# EAGLE library part SSD1289 (library Barnard)
240x320 RGB TFT controller with SPI touch controller. Commonly found on Asian TFT modules such as HY32D.
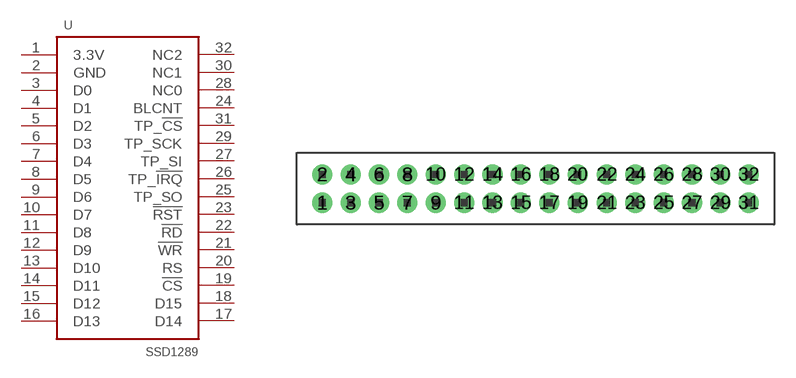
[diagram p0: symbol with the pads of 2X16; footprint 2X16]

Designator prefix -

## SSD1289  [2X16]
1  3.3V  pwr
2  GND  pwr
3  D0
4  D1
5  D2
6  D3
7  D4
8  D5
9  D6
10  D7
11  D8
12  D9
13  D10
14  D11
15  D12
16  D13
17  D14
18  D15
19  !CS  in
20  RS  in
21  !WR  in
22  !RD  in
23  !RST  in
24  BLCNT  in
25  TP_SO  out
26  TP_!IRQ  out
27  TP_SI  in
28  NC0  nc
29  TP_SCK  in
30  NC1  nc
31  TP_!CS  in
32  NC2  nc

## Footprint 2X16 (pad centres in mm)
drill 0.8 pad 1.422: 1 -9,-1; 2 -9,1; 3 -7,-1; 4 -7,1; 5 -5,-1; 6 -5,1; 7 -3,-1; 8 -3,1; 9 -1,-1; 10 -1,1; 11 1,-1; 12 1,1; 13 3,-1; 14 3,1; 15 5,-1; 16 5,1; 17 7,-1; 18 7,1; 19 9,-1; 20 9,1; 21 11.065,-1; 22 11.065,1; 23 13.065,-1; 24 13.065,1; 25 15.065,-1; 26 15.065,1; 27 17.065,-1; 28 17.065,1; 29 19.065,-1; 30 19.065,1; 31 21.065,-1; 32 21.065,1